# EAGLE library part PCA9506 (library micro-philips)
40-bit I2C-bus I/O port with /RESET, /OE and /INT The 9506 has no pull-ups on IO pins. Source: http://www.nxp.com/acrobat_download/datasheets/PCA9505_9506_3.pdf
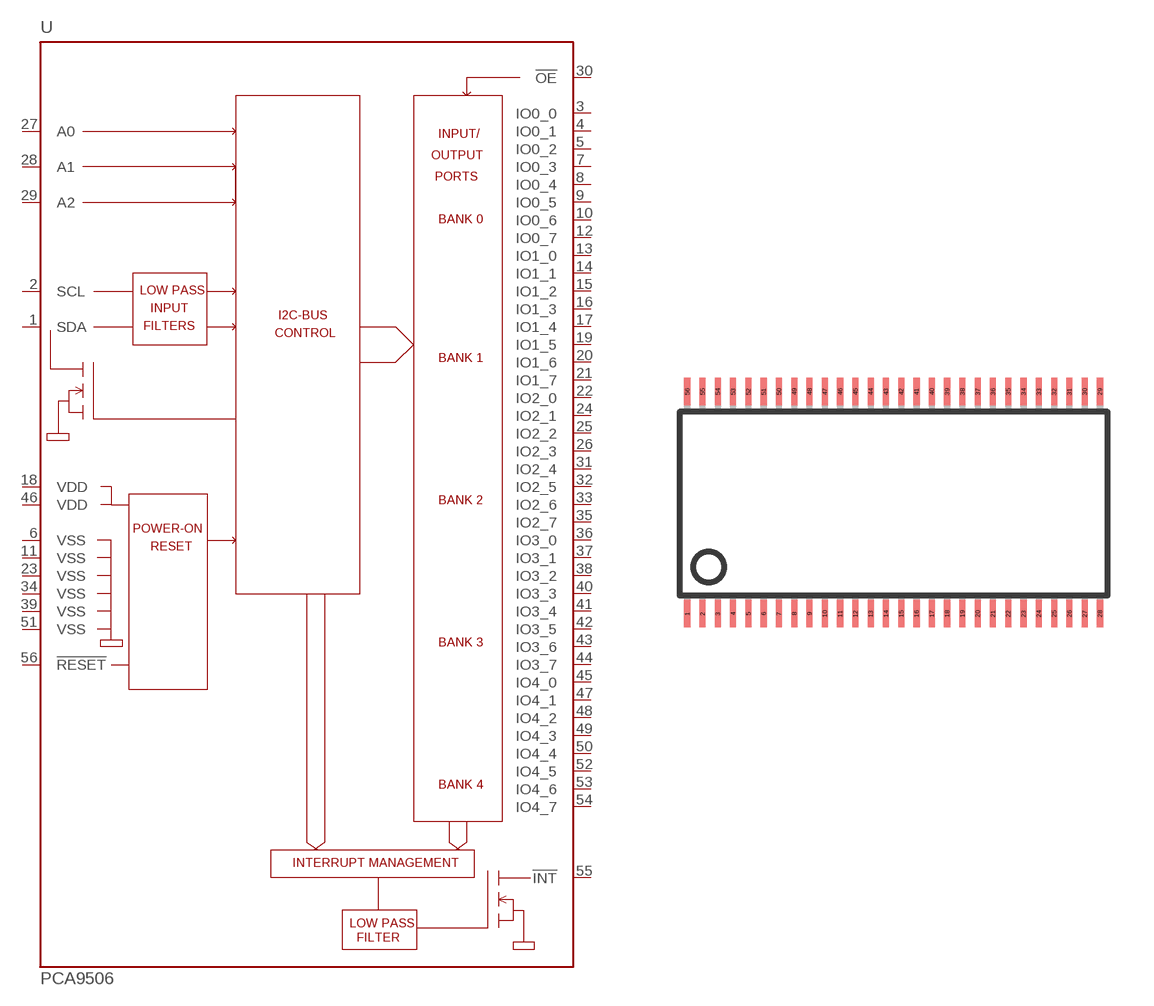
[diagram p30: symbol with the pads of TSSOP56-6; footprint TSSOP56-6]

Designator prefix -

## PCA9506  [TSSOP56-6]
1  SDA
2  SCL  in
3  IO0_0
4  IO0_1
5  IO0_2
6  VSS  pwr
7  IO0_3
8  IO0_4
9  IO0_5
10  IO0_6
11  VSS  pwr
12  IO0_7
13  IO1_0
14  IO1_1
15  IO1_2
16  IO1_3
17  IO1_4
18  VDD  pwr
19  IO1_5
20  IO1_6
21  IO1_7
22  IO2_0
23  VSS  pwr
24  IO2_1
25  IO2_2
26  IO2_3
27  A0  in
28  A1  in
29  A2  in
30  !OE  in
31  IO2_4
32  IO2_5
33  IO2_6
34  VSS  pwr
35  IO2_7
36  IO3_0
37  IO3_1
38  IO3_2
39  VSS  pwr
40  IO3_3
41  IO3_4
42  IO3_5
43  IO3_6
44  IO3_7
45  IO4_0
46  VDD  pwr
47  IO4_1
48  IO4_2
49  IO4_3
50  IO4_4
51  VSS  pwr
52  IO4_5
53  IO4_6
54  IO4_7
55  !INT  in
56  !RESET  in

## Footprint TSSOP56-6 (pad centres in mm)
TSSOP56 Plastic thin shrink small outline package; 56 leads; body width 6.1mm AKA SOT364-1 Source: http://www.nxp.com/acrobat_download/datasheets/PCA9505_9506_3.pdf
smd 0.2 x 0.9: 1 -6.75,-3.6; 2 -6.25,-3.6; 3 -5.75,-3.6; 4 -5.25,-3.6; 5 -4.75,-3.6; 6 -4.25,-3.6; 7 -3.75,-3.6; 8 -3.25,-3.6; 9 -2.75,-3.6; 10 -2.25,-3.6; 11 -1.75,-3.6; 12 -1.25,-3.6; 13 -0.75,-3.6; 14 -0.25,-3.6; 15 0.25,-3.6; 16 0.75,-3.6; 17 1.25,-3.6; 18 1.75,-3.6; 19 2.25,-3.6; 20 2.75,-3.6; 21 3.25,-3.6; 22 3.75,-3.6; 23 4.25,-3.6; 24 4.75,-3.6; 25 5.25,-3.6; 26 5.75,-3.6; 27 6.25,-3.6; 28 6.75,-3.6; 29 6.75,3.66; 30 6.25,3.66; 31 5.75,3.66; 32 5.25,3.66; 33 4.75,3.66; 34 4.25,3.66; 35 3.75,3.66; 36 3.25,3.66; 37 2.75,3.66; 38 2.25,3.66; 39 1.75,3.66; 40 1.25,3.66; 41 0.75,3.66; 42 0.25,3.66; 43 -0.25,3.66; 44 -0.75,3.66; 45 -1.25,3.66; 46 -1.75,3.66; 47 -2.25,3.66; 48 -2.75,3.66; 49 -3.25,3.66; 50 -3.75,3.66; 51 -4.25,3.66; 52 -4.75,3.66; 53 -5.25,3.66; 54 -5.75,3.66; 55 -6.25,3.66; 56 -6.75,3.66